# Altium footprint library IHLP-2020.PcbLib: 1 footprints
Each footprint in its own frame and in the unit in brackets; x right, y up, seen from the top. Pads: shape width x height; smd on the part's side, far side on the other; paste and mask are expansions set on the pad; w line width, h text height; cw(c..) or ccw(c..) is an arc to the next point about the centre after c.
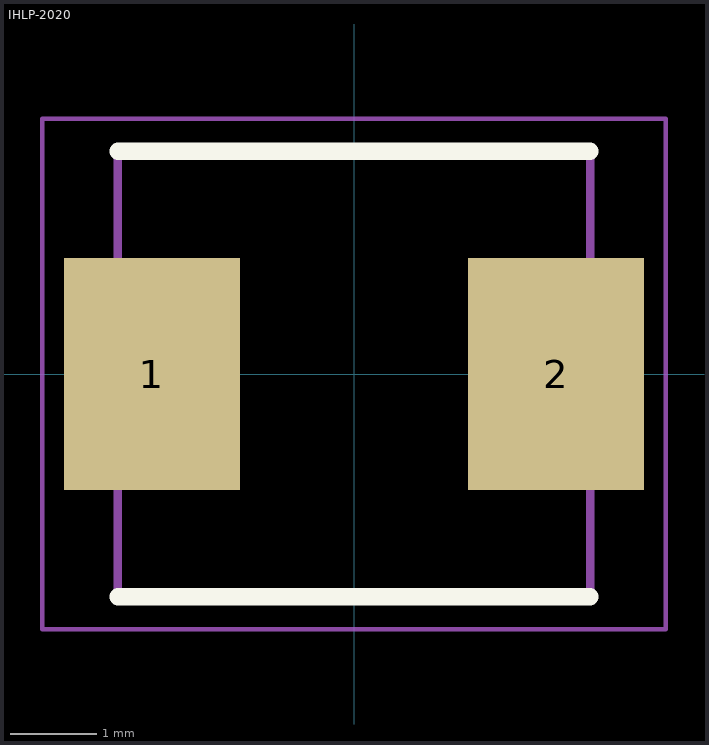
[diagram p0: the footprint, top view; thin cyan lines are the x and y axes]

## IHLP-2020 [mm]
pads (2):
  rect 2.05x2.7 smd: 1(-2.35,0) 2(2.35,0)
Top Overlay:
  lines w0.2: -2.745,-2.59 2.745,-2.59 ; -2.745,2.59 2.745,2.59
Mechanical 15:
  lines w0.1: -2.745,-2.59 -2.745,2.59 2.745,2.59 2.745,-2.59 -2.745,-2.59
Mechanical 20:
  lines w0.05: -3.625,-2.967 -3.625,2.967 3.625,2.967 3.625,-2.967 -3.625,-2.967
3D body "IHLP2020BZER2R2M01.stp": height 1.92, standoff 0, extent -2.725,-2.54 2.725,2.606